# EAGLE library part X09 (library connectors)
Connector 9 pins
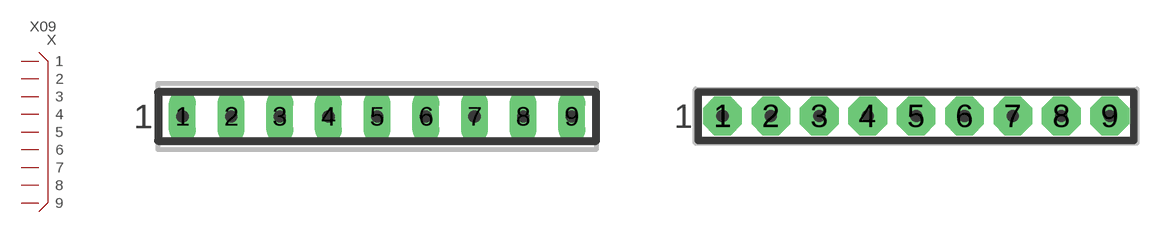
[diagram p17: symbol with the pads of X09L-SIL; footprints X09L-SIL, X09N-SIL]

Designator prefix X

## X09L  [X09L-SIL]
1  1
2  2
3  3
4  4
5  5
6  6
7  7
8  8
9  9

## X09N  [X09N-SIL]
Pads as for X09L-SIL

## X09  [X09N-SIL]
Pads as for X09L-SIL

## X09R  [X09R-SIL]
Pads as for X09L-SIL

## X09T  [X09T]
Pads as for X09L-SIL

## X09-DRIB  [X09-DSUBRIBBON]
Pads as for X09L-SIL

## X09-DFEM  [X09-DSUBFEMALE1]
Pads as for X09L-SIL

## X09-DMAL  [X09-DSUBMALE1]
Pads as for X09L-SIL

## Footprint X09L-SIL (pad centres in mm)
Connector 9 pins, SIL, long pads
drill 0.889 pad 1.397 long: 1 -10.16,0; 2 -7.62,0; 3 -5.08,0; 4 -2.54,0; 5 0,0; 6 2.54,0; 7 5.08,0; 8 7.62,0; 9 10.16,0

## Footprint X09N-SIL (pad centres in mm)
Connector 9 pins, SIL
drill 0.889 pad 2.032 octagon: 1 -10.16,0; 2 -7.62,0; 3 -5.08,0; 4 -2.54,0; 5 0,0; 6 2.54,0; 7 5.08,0; 8 7.62,0; 9 10.16,0

## Footprint X09R-SIL (pad centres in mm)
Connector 9 pins, SIL, reduced pads
drill 0.889 pad 1.397 square: 1 -10.16,0; 2 -7.62,0; 3 -5.08,0; 4 -2.54,0; 5 0,0; 6 2.54,0; 7 5.08,0; 8 7.62,0; 9 10.16,0

## Footprint X09T (pad centres in mm)
Vacuum tube socket, 9 pins
drill 1.295 pad 2.54 octagon: 1 7.303,5.397; 2 2.857,8.572; 3 -2.857,8.572; 4 -7.303,5.397; 5 -9.207,0; 6 -7.303,-5.397; 7 -2.857,-8.572; 8 2.857,-8.572; 9 7.303,-5.397

## Footprint X09-DSUBRIBBON (pad centres in mm)
Connector 9 pins, reduced pads, for D-Sub connections with ribbon cable
drill 0.889 pad 1.397 square: 1 -5.08,-1.27; 2 -2.54,-1.27; 3 0,-1.27; 4 2.54,-1.27; 5 5.08,-1.27; 6 -5.08,1.27; 7 -2.54,1.27; 8 0,1.27; 9 2.54,1.27
drill 0.889 pad 1.397 round: NC 5.08,1.27

## Footprint X09-DSUBFEMALE1 (pad centres in mm)
D-SUB connector 9 pins, female American size, with shield soldering pads
drill 0.889 pad 1.651 square: 1 5.5,1.375; 2 2.75,1.375; 3 0,1.375; 4 -2.75,1.375; 5 -5.5,1.375; 6 4.125,-1.375; 7 1.375,-1.375; 8 -1.375,-1.375; 9 -4.125,-1.375
drill 3.175 pad 6.35 octagon: P$1 12.375,0; P$2 -12.375,0

## Footprint X09-DSUBMALE1 (pad centres in mm)
D-SUB connector 9 pins, male American size, with shield soldering pads
drill 0.889 pad 1.651 square: 1 -5.5,1.375; 2 -2.75,1.375; 3 0,1.375; 4 2.75,1.375; 5 5.5,1.375; 6 -4.125,-1.375; 7 -1.375,-1.375; 8 1.375,-1.375; 9 4.125,-1.375
drill 3.175 pad 6.35 octagon: P$1 12.375,0; P$2 -12.375,0